# EAGLE library part EXB-2HV561JV (library jaycollett)
Resistor Array
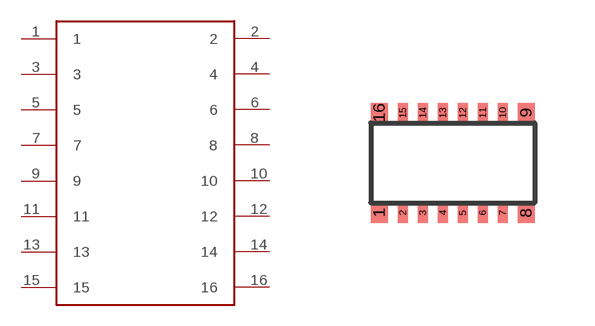
[diagram p2: symbol with the pads of EXB2HV; footprint EXB2HV]

Designator prefix -

## EXB-2HV561JV  [EXB2HV]
1  1
2  2
3  3
4  4
5  5
6  6
7  7
8  8
9  9
10  10
11  11
12  12
13  13
14  14
15  15
16  16

## Footprint EXB2HV (pad centres in mm)
smd 0.425 x 0.5: 1 -1.837,-1.25; 8 1.837,-1.25; 9 1.837,1.25; 16 -1.837,1.25
smd 0.25 x 0.5: 2 -1.25,-1.25; 3 -0.75,-1.25; 4 -0.25,-1.25; 5 0.25,-1.25; 6 0.75,-1.25; 7 1.25,-1.25; 10 1.25,1.25; 11 0.75,1.25; 12 0.25,1.25; 13 -0.25,1.25; 14 -0.75,1.25; 15 -1.25,1.25